# Altium integrated library TI_Logic_Flip-Flop,Latch,Register.IntLib: 2598 symbols (part 83 of 122)
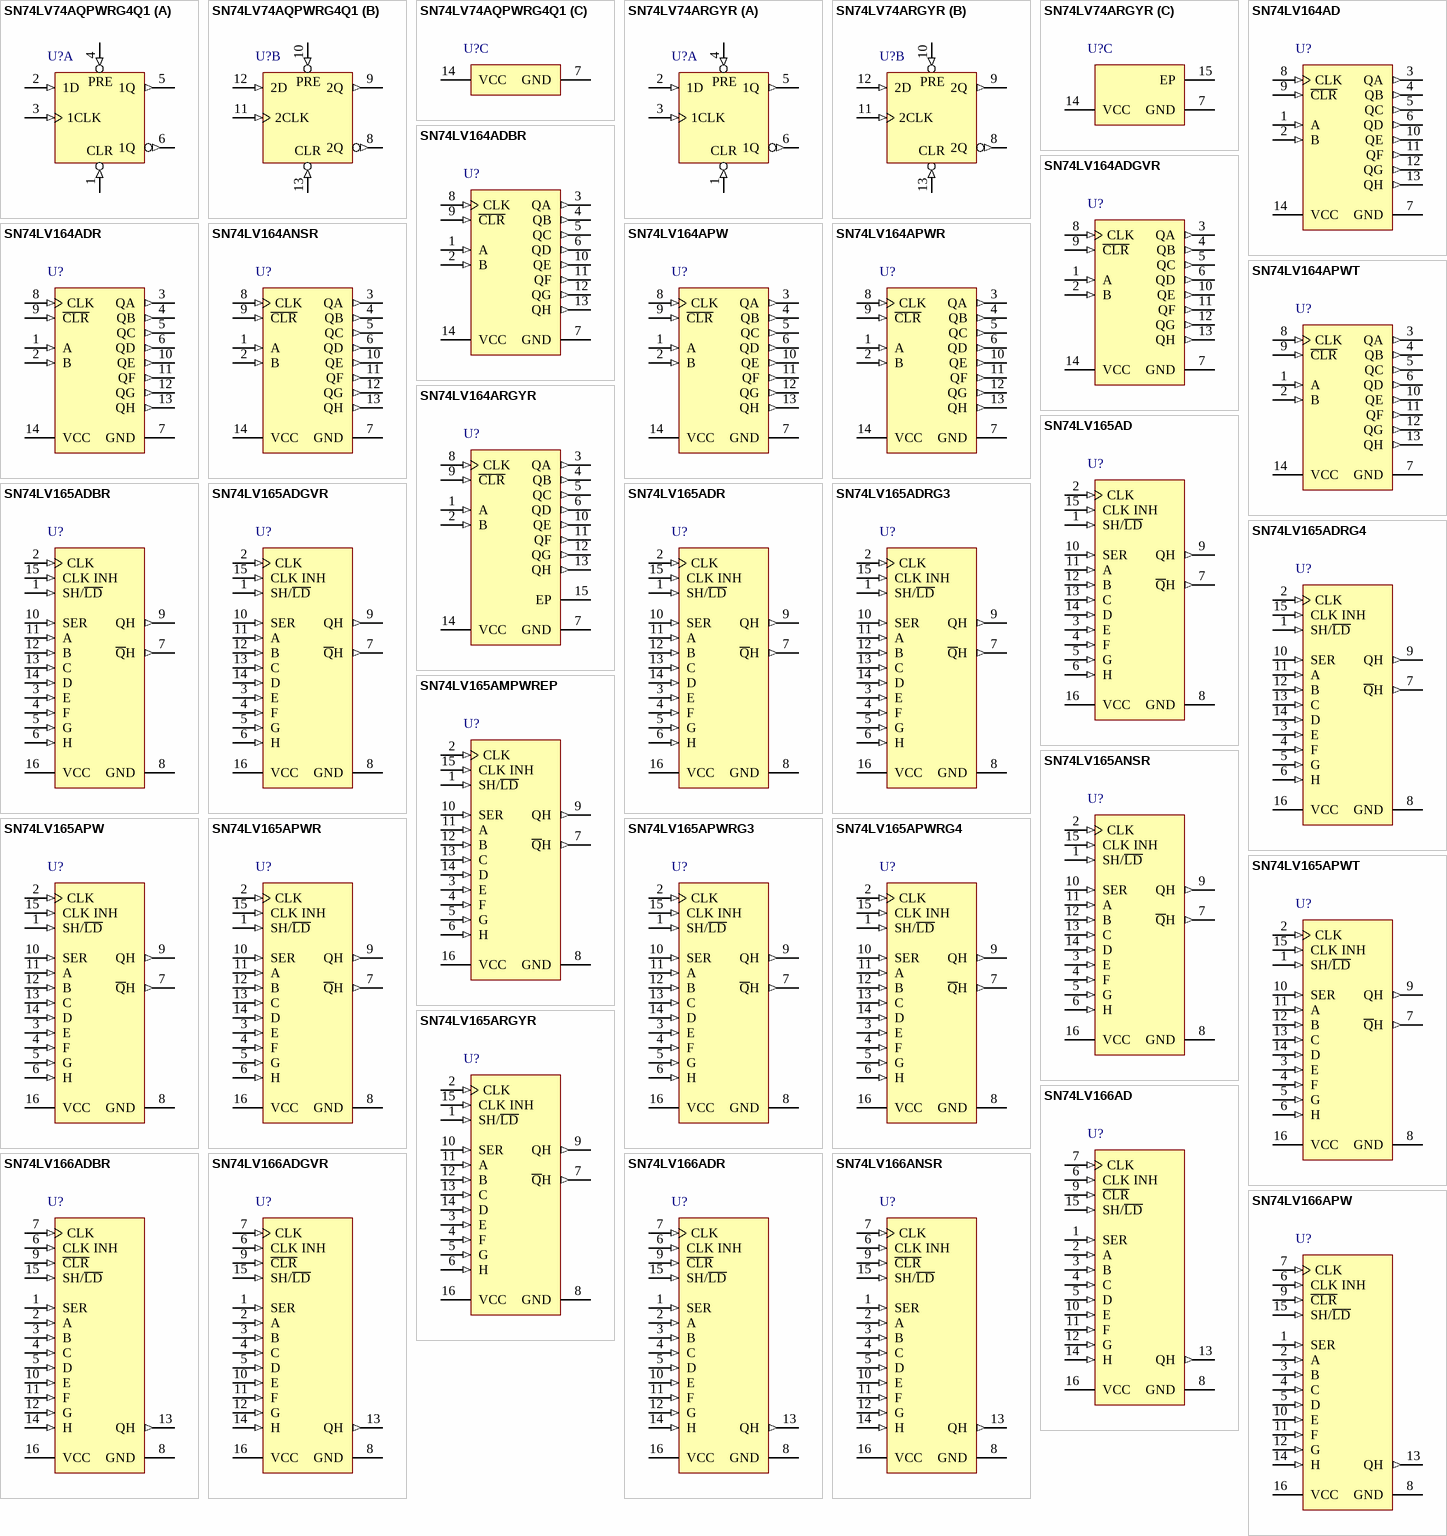
[diagram p221: symbols SN74LV74AQPWRG4Q1 to SN74LV166APW]

## SN74LV164AD
designator U?
8-Bit Parallel-Out Serial Shift Registers, D0014A, TUBE; Generic Part Number: SN74LV164A; Manufacturer: Texas Instruments; PartNumber: SN74LV164AD; Technology Family: LV-A; VCC(Min)(V): 2; VCC(Max)(V): 5.5; Voltage(Nom)(V): 2.5, 3.3, 5; F @ Nom Voltage(Max)(Mhz): 70; ICC @ Nom Voltage(Max)(mA): 0.02; tpd @ Nom Voltage(Max)(ns): 24, 18.5, 12.5; Output Drive (IOL/IOH)(Max)(mA): 50/-50; Input Type: CMOS; 3-State Output: No; Rating: Catalog; DatasheetVersion: SCLS403H; PackageReference: D0014A; Output Type: CMOS; Operating Temperature Range(C): -40 to 85; Code_JEDEC: MS-012; ComponentLink1Description: Manufacturer URL; ComponentLink1URL: http://www.ti.com/; ComponentLink2Description: Datasheet; ComponentLink2URL: http://www.ti.com/lit/ds/symlink/sn74lv164a.pdf; ComponentLink3Description: Package Specification; ComponentLink3URL: http://www.ti.com/lit/ml/mpds177g/mpds177g.pdf
footprint D0014A_N (SOIC, 14-Leads, Body 8.75x4mm, Pitch 1.27mm, IPC Medium Density)
footprint D0014A_M (SOIC, 14-Leads, Body 8.75x4mm, Pitch 1.27mm, IPC Low Density)
footprint D0014A_L (SOIC, 14-Leads, Body 8.75x4mm, Pitch 1.27mm, IPC High Density)
pins: 1 A (in) "Serial input A", 2 B (in) "Serial input B", 3 QA (out) "Output A", 4 QB (out) "Output B", 5 QC (out) "Output C", 6 QD (out) "Output D", 7 GND (power) "Ground pin", 8 CLK (in) "Storage clock", 9 ~{CLR} (in) "Storage clear", 10 QE (out) "Output E", 11 QF (out) "Output F", 12 QG (out) "Output G", 13 QH (out) "Output H", 14 VCC (power) "Power pin"

## SN74LV164ADBR
designator U?
8-Bit Parallel-Out Serial Shift Registers, DB0014A, LARGE T&R; Generic Part Number: SN74LV164A; Manufacturer: Texas Instruments; PartNumber: SN74LV164ADBR; Technology Family: LV-A; VCC(Min)(V): 2; VCC(Max)(V): 5.5; Voltage(Nom)(V): 2.5, 3.3, 5; F @ Nom Voltage(Max)(Mhz): 70; ICC @ Nom Voltage(Max)(mA): 0.02; tpd @ Nom Voltage(Max)(ns): 24, 18.5, 12.5; Output Drive (IOL/IOH)(Max)(mA): 50/-50; Input Type: CMOS; 3-State Output: No; Rating: Catalog; Bits: 8; DatasheetVersion: SCLS403H; PackageReference: DB0014A; Output Type: CMOS; Operating Temperature Range(C): -40 to 85; Code_JEDEC: MO-150; ComponentLink1Description: Manufacturer URL; ComponentLink1URL: http://www.ti.com/; ComponentLink2Description: Datasheet; ComponentLink2URL: http://www.ti.com/lit/ds/symlink/sn74lv164a.pdf; ComponentLink3Description: Package Specification; ComponentLink3URL: http://www.ti.com/lit/ml/msso002e/msso002e.pdf
footprint DB0014A_N (SOP, 14-Leads, Body 5.6x6.5mm, Pitch 0.65mm, IPC Medium Density)
footprint DB0014A_M (SOP, 14-Leads, Body 5.6x6.5mm, Pitch 0.65mm, IPC Low Density)
footprint DB0014A_L (SOP, 14-Leads, Body 5.6x6.5mm, Pitch 0.65mm, IPC High Density)
pins: 1 A (in) "Serial input A", 2 B (in) "Serial input B", 3 QA (out) "Output A", 4 QB (out) "Output B", 5 QC (out) "Output C", 6 QD (out) "Output D", 7 GND (power) "Ground pin", 8 CLK (in) "Storage clock", 9 ~{CLR} (in) "Storage clear", 10 QE (out) "Output E", 11 QF (out) "Output F", 12 QG (out) "Output G", 13 QH (out) "Output H", 14 VCC (power) "Power pin"

## SN74LV164ADGVR
designator U?
8-Bit Parallel-Out Serial Shift Registers, DGV0014A, LARGE T&R; Generic Part Number: SN74LV164A; Manufacturer: Texas Instruments; PartNumber: SN74LV164ADGVR; Technology Family: LV-A; VCC(Min)(V): 2; VCC(Max)(V): 5.5; Voltage(Nom)(V): 2.5, 3.3, 5; F @ Nom Voltage(Max)(Mhz): 70; ICC @ Nom Voltage(Max)(mA): 0.02; tpd @ Nom Voltage(Max)(ns): 24, 18.5, 12.5; Output Drive (IOL/IOH)(Max)(mA): 50/-50; Input Type: CMOS; 3-State Output: No; Rating: Catalog; Bits: 8; DatasheetVersion: SCLS403H; PackageReference: DGV0014A; Output Type: CMOS; Operating Temperature Range(C): -40 to 85; Code_JEDEC: MO-194; ComponentLink1Description: Manufacturer URL; ComponentLink1URL: http://www.ti.com/; ComponentLink2Description: Datasheet; ComponentLink2URL: http://www.ti.com/lit/ds/symlink/sn74lv164a.pdf; ComponentLink3Description: Package Specification; ComponentLink3URL: http://www.ti.com/lit/ml/mpds006c/mpds006c.pdf
footprint DGV0014A_N (SOP, 14-Leads, Body 4.5x3.7mm, Pitch 0.4mm, IPC Medium Density)
footprint DGV0014A_M (SOP, 14-Leads, Body 4.5x3.7mm, Pitch 0.4mm, IPC Low Density)
footprint DGV0014A_L (SOP, 14-Leads, Body 4.5x3.7mm, Pitch 0.4mm, IPC High Density)
pins: 1 A (in) "Serial input A", 2 B (in) "Serial input B", 3 QA (out) "Output A", 4 QB (out) "Output B", 5 QC (out) "Output C", 6 QD (out) "Output D", 7 GND (power) "Ground pin", 8 CLK (in) "Storage clock", 9 ~{CLR} (in) "Storage clear", 10 QE (out) "Output E", 11 QF (out) "Output F", 12 QG (out) "Output G", 13 QH (out) "Output H", 14 VCC (power) "Power pin"

## SN74LV164ADR
designator U?
8-Bit Parallel-Out Serial Shift Registers, D0014A, LARGE T&R; Generic Part Number: SN74LV164A; Manufacturer: Texas Instruments; PartNumber: SN74LV164ADR; Technology Family: LV-A; VCC(Min)(V): 2; VCC(Max)(V): 5.5; Voltage(Nom)(V): 2.5, 3.3, 5; F @ Nom Voltage(Max)(Mhz): 70; ICC @ Nom Voltage(Max)(mA): 0.02; tpd @ Nom Voltage(Max)(ns): 24, 18.5, 12.5; Output Drive (IOL/IOH)(Max)(mA): 50/-50; Input Type: CMOS; 3-State Output: No; Rating: Catalog; DatasheetVersion: SCLS403H; PackageReference: D0014A; Output Type: CMOS; Operating Temperature Range(C): -40 to 85; Code_JEDEC: MS-012; ComponentLink1Description: Manufacturer URL; ComponentLink1URL: http://www.ti.com/; ComponentLink2Description: Datasheet; ComponentLink2URL: http://www.ti.com/lit/ds/symlink/sn74lv164a.pdf; ComponentLink3Description: Package Specification; ComponentLink3URL: http://www.ti.com/lit/ml/mpds177g/mpds177g.pdf
footprint D0014A_N (SOIC, 14-Leads, Body 8.75x4mm, Pitch 1.27mm, IPC Medium Density)
footprint D0014A_M (SOIC, 14-Leads, Body 8.75x4mm, Pitch 1.27mm, IPC Low Density)
footprint D0014A_L (SOIC, 14-Leads, Body 8.75x4mm, Pitch 1.27mm, IPC High Density)
pins: 1 A (in) "Serial input A", 2 B (in) "Serial input B", 3 QA (out) "Output A", 4 QB (out) "Output B", 5 QC (out) "Output C", 6 QD (out) "Output D", 7 GND (power) "Ground pin", 8 CLK (in) "Storage clock", 9 ~{CLR} (in) "Storage clear", 10 QE (out) "Output E", 11 QF (out) "Output F", 12 QG (out) "Output G", 13 QH (out) "Output H", 14 VCC (power) "Power pin"

## SN74LV164ANSR
designator U?
8-Bit Parallel-Out Serial Shift Registers, NS0014A, LARGE T&R; Generic Part Number: SN74LV164A; Manufacturer: Texas Instruments; PartNumber: SN74LV164ANSR; Technology Family: LV-A; VCC(Min)(V): 2; VCC(Max)(V): 5.5; Voltage(Nom)(V): 2.5, 3.3, 5; F @ Nom Voltage(Max)(Mhz): 70; ICC @ Nom Voltage(Max)(mA): 0.02; tpd @ Nom Voltage(Max)(ns): 24, 18.5, 12.5; Output Drive (IOL/IOH)(Max)(mA): 50/-50; Input Type: CMOS; 3-State Output: No; Rating: Catalog; Bits: 8; DatasheetVersion: SCLS403H; PackageReference: NS0014A; Output Type: CMOS; Operating Temperature Range(C): -40 to 85; ComponentLink1Description: Manufacturer URL; ComponentLink1URL: http://www.ti.com/; ComponentLink2Description: Datasheet; ComponentLink2URL: http://www.ti.com/lit/ds/symlink/sn74lv164a.pdf; ComponentLink3Description: Package Specification; ComponentLink3URL: http://www.ti.com/lit/ml/msop002a/msop002a.pdf
footprint NS0014A_N (SOIC,14-Leads,Body 10.5x5.6mm,Pitch 1.27mm,IPC Medium Density)
footprint NS0014A_M (SOIC,14-Leads,Body 10.5x5.6mm,Pitch 1.27mm,IPC Low Density)
footprint NS0014A_L (SOIC,14-Leads,Body 10.5x5.6mm,Pitch 0.4mm,IPC High Density)
pins: 1 A (in) "Serial input A", 2 B (in) "Serial input B", 3 QA (out) "Output A", 4 QB (out) "Output B", 5 QC (out) "Output C", 6 QD (out) "Output D", 7 GND (power) "Ground pin", 8 CLK (in) "Storage clock", 9 ~{CLR} (in) "Storage clear", 10 QE (out) "Output E", 11 QF (out) "Output F", 12 QG (out) "Output G", 13 QH (out) "Output H", 14 VCC (power) "Power pin"

## SN74LV164APW
designator U?
8-Bit Parallel-Out Serial Shift Registers, PW0014A, TUBE; Generic Part Number: SN74LV164A; Manufacturer: Texas Instruments; PartNumber: SN74LV164APW; Technology Family: LV-A; VCC(Min)(V): 2; VCC(Max)(V): 5.5; Voltage(Nom)(V): 2.5, 3.3, 5; F @ Nom Voltage(Max)(Mhz): 70; ICC @ Nom Voltage(Max)(mA): 0.02; tpd @ Nom Voltage(Max)(ns): 24, 18.5, 12.5; Output Drive (IOL/IOH)(Max)(mA): 50/-50; Input Type: CMOS; 3-State Output: No; Rating: Catalog; Bits: 64; DatasheetVersion: SCLS403H; PackageReference: PW0014A; Output Type: CMOS; Operating Temperature Range(C): -40 to 85; Code_JEDEC: MO-153; ComponentLink1Description: Manufacturer URL; ComponentLink1URL: http://www.ti.com/; ComponentLink2Description: Datasheet; ComponentLink2URL: http://www.ti.com/lit/ds/symlink/sn74lv164a.pdf; ComponentLink3Description: Package Specification; ComponentLink3URL: http://www.ti.com/lit/ml/mpds360/mpds360.pdf
footprint PW0014A_N (SOP, 14-Leads, Body 5.1x4.5mm, Pitch 0.65mm, IPC Medium Density)
footprint PW0014A_M (SOP, 14-Leads, Body 5.1x4.5mm, Pitch 0.65mm, IPC Low Density)
footprint PW0014A_L (SOP, 14-Leads, Body 5.1x4.5mm, Pitch 0.65mm, IPC High Density)
pins: 1 A (in) "Serial input A", 2 B (in) "Serial input B", 3 QA (out) "Output A", 4 QB (out) "Output B", 5 QC (out) "Output C", 6 QD (out) "Output D", 7 GND (power) "Ground pin", 8 CLK (in) "Storage clock", 9 ~{CLR} (in) "Storage clear", 10 QE (out) "Output E", 11 QF (out) "Output F", 12 QG (out) "Output G", 13 QH (out) "Output H", 14 VCC (power) "Power pin"

## SN74LV164APWR
designator U?
8-Bit Parallel-Out Serial Shift Registers, PW0014A, LARGE T&R; Generic Part Number: SN74LV164A; Manufacturer: Texas Instruments; PartNumber: SN74LV164APWR; Technology Family: LV-A; VCC(Min)(V): 2; VCC(Max)(V): 5.5; Voltage(Nom)(V): 2.5, 3.3, 5; F @ Nom Voltage(Max)(Mhz): 70; ICC @ Nom Voltage(Max)(mA): 0.02; tpd @ Nom Voltage(Max)(ns): 24, 18.5, 12.5; Output Drive (IOL/IOH)(Max)(mA): 50/-50; Input Type: CMOS; 3-State Output: No; Rating: Catalog; DatasheetVersion: SCLS403H; PackageReference: PW0014A; Output Type: CMOS; Operating Temperature Range(C): -40 to 85; Code_JEDEC: MO-153; ComponentLink1Description: Manufacturer URL; ComponentLink1URL: http://www.ti.com/; ComponentLink2Description: Datasheet; ComponentLink2URL: http://www.ti.com/lit/ds/symlink/sn74lv164a.pdf; ComponentLink3Description: Package Specification; ComponentLink3URL: http://www.ti.com/lit/ml/mpds360/mpds360.pdf
footprint PW0014A_N (SOP, 14-Leads, Body 5.1x4.5mm, Pitch 0.65mm, IPC Medium Density)
footprint PW0014A_M (SOP, 14-Leads, Body 5.1x4.5mm, Pitch 0.65mm, IPC Low Density)
footprint PW0014A_L (SOP, 14-Leads, Body 5.1x4.5mm, Pitch 0.65mm, IPC High Density)
pins: 1 A (in) "Serial input A", 2 B (in) "Serial input B", 3 QA (out) "Output A", 4 QB (out) "Output B", 5 QC (out) "Output C", 6 QD (out) "Output D", 7 GND (power) "Ground pin", 8 CLK (in) "Storage clock", 9 ~{CLR} (in) "Storage clear", 10 QE (out) "Output E", 11 QF (out) "Output F", 12 QG (out) "Output G", 13 QH (out) "Output H", 14 VCC (power) "Power pin"

## SN74LV164APWT
designator U?
8-Bit Parallel-Out Serial Shift Registers, PW0014A, SMALL T&R; Generic Part Number: SN74LV164A; Manufacturer: Texas Instruments; PartNumber: SN74LV164APWT; Technology Family: LV-A; VCC(Min)(V): 2; VCC(Max)(V): 5.5; Voltage(Nom)(V): 2.5, 3.3, 5; F @ Nom Voltage(Max)(Mhz): 70; ICC @ Nom Voltage(Max)(mA): 0.02; tpd @ Nom Voltage(Max)(ns): 24, 18.5, 12.5; Output Drive (IOL/IOH)(Max)(mA): 50/-50; Input Type: CMOS; 3-State Output: No; Rating: Catalog; Bits: 64; DatasheetVersion: SCLS403H; PackageReference: PW0014A; Output Type: CMOS; Operating Temperature Range(C): -40 to 85; Code_JEDEC: MO-153; ComponentLink1Description: Manufacturer URL; ComponentLink1URL: http://www.ti.com/; ComponentLink2Description: Datasheet; ComponentLink2URL: http://www.ti.com/lit/ds/symlink/sn74lv164a.pdf; ComponentLink3Description: Package Specification; ComponentLink3URL: http://www.ti.com/lit/ml/mpds360/mpds360.pdf
footprint PW0014A_N (SOP, 14-Leads, Body 5.1x4.5mm, Pitch 0.65mm, IPC Medium Density)
footprint PW0014A_M (SOP, 14-Leads, Body 5.1x4.5mm, Pitch 0.65mm, IPC Low Density)
footprint PW0014A_L (SOP, 14-Leads, Body 5.1x4.5mm, Pitch 0.65mm, IPC High Density)
pins: 1 A (in) "Serial input A", 2 B (in) "Serial input B", 3 QA (out) "Output A", 4 QB (out) "Output B", 5 QC (out) "Output C", 6 QD (out) "Output D", 7 GND (power) "Ground pin", 8 CLK (in) "Storage clock", 9 ~{CLR} (in) "Storage clear", 10 QE (out) "Output E", 11 QF (out) "Output F", 12 QG (out) "Output G", 13 QH (out) "Output H", 14 VCC (power) "Power pin"

## SN74LV164ARGYR
designator U?
8-Bit Parallel-Out Serial Shift Registers, RGY0014A, LARGE T&R; Generic Part Number: SN74LV164A; Manufacturer: Texas Instruments; PartNumber: SN74LV164ARGYR; Technology Family: LV-A; VCC(Min)(V): 2; VCC(Max)(V): 5.5; Voltage(Nom)(V): 2.5, 3.3, 5; F @ Nom Voltage(Max)(Mhz): 70; ICC @ Nom Voltage(Max)(mA): 0.02; tpd @ Nom Voltage(Max)(ns): 24, 18.5, 12.5; Output Drive (IOL/IOH)(Max)(mA): 50/-50; Input Type: CMOS; 3-State Output: No; Rating: Catalog; DatasheetVersion: SCLS403H; PackageReference: RGY0014A; Output Type: CMOS; Operating Temperature Range(C): -40 to 85; Code_JEDEC: MO-241; ComponentLink1Description: Manufacturer URL; ComponentLink1URL: http://www.ti.com/; ComponentLink2Description: Datasheet; ComponentLink2URL: http://www.ti.com/lit/ds/symlink/sn74lv164a.pdf; ComponentLink3Description: Package Specification; ComponentLink3URL: http://www.ti.com/lit/ml/mpqf114g/mpqf114g.pdf
footprint RGY0014A_V (QFN, 14-Leads, Body 3.5x3.5mm, Thermal Pad 2.05x2.05mm, TI Recommend)
pins: 1 A (in) "Serial input A", 2 B (in) "Serial input B", 3 QA (out) "Output A", 4 QB (out) "Output B", 5 QC (out) "Output C", 6 QD (out) "Output D", 7 GND (power) "Ground pin", 8 CLK (in) "Storage clock", 9 ~{CLR} (in) "Storage clear", 10 QE (out) "Output E", 11 QF (out) "Output F", 12 QG (out) "Output G", 13 QH (out) "Output H", 14 VCC (power) "Power pin", 15 EP

## SN74LV165AD
designator U?
Parallel-Load 8-Bit Shift Registers, D0016A, TUBE; Generic Part Number: SN74LV165A; Manufacturer: Texas Instruments; PartNumber: SN74LV165AD; Technology Family: LV-A; VCC(Min)(V): 2; VCC(Max)(V): 5.5; Voltage(Nom)(V): 2.5, 3.3, 5; F @ Nom Voltage(Max)(Mhz): 70; ICC @ Nom Voltage(Max)(mA): 0.02; tpd @ Nom Voltage(Max)(ns): 28, 16.9, 13.5; Output Drive (IOL/IOH)(Max)(mA): 50/-50; Input Type: CMOS; 3-State Output: No; Rating: Catalog; Bits: 8; DatasheetVersion: SCLS402N; PackageReference: D0016A; No. of Outputs: 2; Output Type: CMOS; Operating Temperature Range(C): -40 to 125; Code_JEDEC: MS-012 variation AC; ComponentLink1Description: Manufacturer URL; ComponentLink1URL: http://www.ti.com/; ComponentLink2Description: Datasheet; ComponentLink2URL: http://www.ti.com/lit/ds/symlink/sn74lv165a.pdf; ComponentLink3Description: Package Specification; ComponentLink3URL: http://www.ti.com/lit/ml/mpds178g/mpds178g.pdf
footprint D0016A_N (SOIC, 16-Leads, Body 10x4mm, Pitch 1.27mm, IPC Medium Density)
footprint D0016A_M (SOIC, 16-Leads, Body 10x4mm, Pitch 1.27mm, IPC Low Density)
footprint D0016A_L (SOIC, 16-Leads, Body 10x4mm, Pitch 1.27mm, IPC High Density)
pins: 1 SH/~{LD} (in), 2 CLK (in), 3 E (in), 4 F (in), 5 G (in), 6 H (in), 7 ~{Q}H (out), 8 GND (power), 9 QH (out), 10 SER (in), 11 A (in), 12 B (in), 13 C (in), 14 D (in), 15 CLK INH (in), 16 VCC (power)

## SN74LV165ADBR
designator U?
Parallel-Load 8-Bit Shift Registers, DB0016A, LARGE T&R; Generic Part Number: SN74LV165A; Manufacturer: Texas Instruments; PartNumber: SN74LV165ADBR; Technology Family: LV-A; VCC(Min)(V): 2; VCC(Max)(V): 5.5; Voltage(Nom)(V): 2.5, 3.3, 5; F @ Nom Voltage(Max)(Mhz): 70; ICC @ Nom Voltage(Max)(mA): 0.02; tpd @ Nom Voltage(Max)(ns): 28, 16.9, 13.5; Output Drive (IOL/IOH)(Max)(mA): 50/-50; Input Type: CMOS; 3-State Output: No; Rating: Catalog; Bits: 8; DatasheetVersion: SCLS402N; PackageReference: DB0016A; No. of Outputs: 2; Output Type: CMOS; Operating Temperature Range(C): -40 to 125; Code_JEDEC: MO-150; ComponentLink1Description: Manufacturer URL; ComponentLink1URL: http://www.ti.com/; ComponentLink2Description: Datasheet; ComponentLink2URL: http://www.ti.com/lit/ds/symlink/sn74lv165a.pdf; ComponentLink3Description: Package Specification; ComponentLink3URL: http://www.ti.com/lit/ml/mpds507/mpds507.pdf
footprint DB0016A_N (SOP, 16-Leads, Body 5.6x6.5mm, Pitch 0.65mm, IPC Medium Density)
footprint DB0016A_M (SOP, 16-Leads, Body 5.6x6.5mm, Pitch 0.65mm, IPC Low Density)
footprint DB0016A_L (SOP, 16-Leads, Body 5.6x6.5mm, Pitch 0.65mm, IPC High Density)
pins: 1 SH/~{LD} (in), 2 CLK (in), 3 E (in), 4 F (in), 5 G (in), 6 H (in), 7 ~{Q}H (out), 8 GND (power), 9 QH (out), 10 SER (in), 11 A (in), 12 B (in), 13 C (in), 14 D (in), 15 CLK INH (in), 16 VCC (power)

## SN74LV165ADGVR
designator U?
Parallel-Load 8-Bit Shift Registers, DGV0016A, LARGE T&R; Generic Part Number: SN74LV165A; Manufacturer: Texas Instruments; PartNumber: SN74LV165ADGVR; Technology Family: LV-A; VCC(Min)(V): 2; VCC(Max)(V): 5.5; Voltage(Nom)(V): 2.5, 3.3, 5; F @ Nom Voltage(Max)(Mhz): 70; ICC @ Nom Voltage(Max)(mA): 0.02; tpd @ Nom Voltage(Max)(ns): 28, 16.9, 13.5; Output Drive (IOL/IOH)(Max)(mA): 50/-50; Input Type: CMOS; 3-State Output: No; Rating: Catalog; DatasheetVersion: SCLS402N; PackageReference: DGV0016A; No. of Outputs: 2; Output Type: CMOS; Operating Temperature Range(C): -40 to 125; Code_JEDEC: MO-194; ComponentLink1Description: Manufacturer URL; ComponentLink1URL: http://www.ti.com/; ComponentLink2Description: Datasheet; ComponentLink2URL: http://www.ti.com/lit/ds/symlink/sn74lv165a.pdf; ComponentLink3Description: Package Specification; ComponentLink3URL: http://www.ti.com/lit/ml/mpds006c/mpds006c.pdf
footprint DGV0016A_N (SOP, 16-Leads, Body 4.5x3.7mm, Pitch 0.4mm, IPC Medium Density)
footprint DGV0016A_M (SOP, 16-Leads, Body 4.5x3.7mm, Pitch 0.4mm, IPC Low Density)
footprint DGV0016A_L (SOP, 16-Leads, Body 4.5x3.7mm, Pitch 0.4mm, IPC High Density)
pins: 1 SH/~{LD} (in), 2 CLK (in), 3 E (in), 4 F (in), 5 G (in), 6 H (in), 7 ~{Q}H (out), 8 GND (power), 9 QH (out), 10 SER (in), 11 A (in), 12 B (in), 13 C (in), 14 D (in), 15 CLK INH (in), 16 VCC (power)

## SN74LV165ADR
designator U?
Parallel-Load 8-Bit Shift Registers, D0016A, LARGE T&R; Generic Part Number: SN74LV165A; Manufacturer: Texas Instruments; PartNumber: SN74LV165ADR; Technology Family: LV-A; VCC(Min)(V): 2; VCC(Max)(V): 5.5; Voltage(Nom)(V): 2.5, 3.3, 5; F @ Nom Voltage(Max)(Mhz): 70; ICC @ Nom Voltage(Max)(mA): 0.02; tpd @ Nom Voltage(Max)(ns): 28, 16.9, 13.5; Output Drive (IOL/IOH)(Max)(mA): 50/-50; Input Type: CMOS; 3-State Output: No; Rating: Catalog; Bits: 8; DatasheetVersion: SCLS402N; PackageReference: D0016A; No. of Outputs: 2; Output Type: CMOS; Operating Temperature Range(C): -40 to 125; Code_JEDEC: MS-012 variation AC; ComponentLink1Description: Manufacturer URL; ComponentLink1URL: http://www.ti.com/; ComponentLink2Description: Datasheet; ComponentLink2URL: http://www.ti.com/lit/ds/symlink/sn74lv165a.pdf; ComponentLink3Description: Package Specification; ComponentLink3URL: http://www.ti.com/lit/ml/mpds178g/mpds178g.pdf
footprint D0016A_N (SOIC, 16-Leads, Body 10x4mm, Pitch 1.27mm, IPC Medium Density)
footprint D0016A_M (SOIC, 16-Leads, Body 10x4mm, Pitch 1.27mm, IPC Low Density)
footprint D0016A_L (SOIC, 16-Leads, Body 10x4mm, Pitch 1.27mm, IPC High Density)
pins: 1 SH/~{LD} (in), 2 CLK (in), 3 E (in), 4 F (in), 5 G (in), 6 H (in), 7 ~{Q}H (out), 8 GND (power), 9 QH (out), 10 SER (in), 11 A (in), 12 B (in), 13 C (in), 14 D (in), 15 CLK INH (in), 16 VCC (power)

## SN74LV165ADRG3
designator U?
Parallel-Load 8-Bit Shift Registers, D0016A, LARGE T&R; Generic Part Number: SN74LV165A; Manufacturer: Texas Instruments; PartNumber: SN74LV165ADRG3; Technology Family: LV-A; VCC(Min)(V): 2; VCC(Max)(V): 5.5; Voltage(Nom)(V): 2.5, 3.3, 5; F @ Nom Voltage(Max)(Mhz): 70; ICC @ Nom Voltage(Max)(mA): 0.02; tpd @ Nom Voltage(Max)(ns): 28, 16.9, 13.5; Output Drive (IOL/IOH)(Max)(mA): 50/-50; Input Type: CMOS; 3-State Output: No; Rating: Catalog; Bits: 8; DatasheetVersion: SCLS402N; PackageReference: D0016A; No. of Outputs: 2; Output Type: CMOS; Operating Temperature Range(C): -40 to 125; Code_JEDEC: MS-012 variation AC; ComponentLink1Description: Manufacturer URL; ComponentLink1URL: http://www.ti.com/; ComponentLink2Description: Datasheet; ComponentLink2URL: http://www.ti.com/lit/ds/symlink/sn74lv165a.pdf; ComponentLink3Description: Package Specification; ComponentLink3URL: http://www.ti.com/lit/ml/mpds178g/mpds178g.pdf
footprint D0016A_N (SOIC, 16-Leads, Body 10x4mm, Pitch 1.27mm, IPC Medium Density)
footprint D0016A_M (SOIC, 16-Leads, Body 10x4mm, Pitch 1.27mm, IPC Low Density)
footprint D0016A_L (SOIC, 16-Leads, Body 10x4mm, Pitch 1.27mm, IPC High Density)
pins: 1 SH/~{LD} (in), 2 CLK (in), 3 E (in), 4 F (in), 5 G (in), 6 H (in), 7 ~{Q}H (out), 8 GND (power), 9 QH (out), 10 SER (in), 11 A (in), 12 B (in), 13 C (in), 14 D (in), 15 CLK INH (in), 16 VCC (power)

## SN74LV165ADRG4
designator U?
Parallel-Load 8-Bit Shift Registers, D0016A, LARGE T&R; Generic Part Number: SN74LV165A; Manufacturer: Texas Instruments; PartNumber: SN74LV165ADRG4; Technology Family: LV-A; VCC(Min)(V): 2; VCC(Max)(V): 5.5; Voltage(Nom)(V): 2.5, 3.3, 5; F @ Nom Voltage(Max)(Mhz): 70; ICC @ Nom Voltage(Max)(mA): 0.02; tpd @ Nom Voltage(Max)(ns): 28, 16.9, 13.5; Output Drive (IOL/IOH)(Max)(mA): 50/-50; Input Type: CMOS; 3-State Output: No; Rating: Catalog; Bits: 8; DatasheetVersion: SCLS402N; PackageReference: D0016A; No. of Outputs: 2; Output Type: CMOS; Operating Temperature Range(C): -40 to 125; Code_JEDEC: MS-012 variation AC; ComponentLink1Description: Manufacturer URL; ComponentLink1URL: http://www.ti.com/; ComponentLink2Description: Datasheet; ComponentLink2URL: http://www.ti.com/lit/ds/symlink/sn74lv165a.pdf; ComponentLink3Description: Package Specification; ComponentLink3URL: http://www.ti.com/lit/ml/mpds178g/mpds178g.pdf
footprint D0016A_N (SOIC, 16-Leads, Body 10x4mm, Pitch 1.27mm, IPC Medium Density)
footprint D0016A_M (SOIC, 16-Leads, Body 10x4mm, Pitch 1.27mm, IPC Low Density)
footprint D0016A_L (SOIC, 16-Leads, Body 10x4mm, Pitch 1.27mm, IPC High Density)
pins: 1 SH/~{LD} (in), 2 CLK (in), 3 E (in), 4 F (in), 5 G (in), 6 H (in), 7 ~{Q}H (out), 8 GND (power), 9 QH (out), 10 SER (in), 11 A (in), 12 B (in), 13 C (in), 14 D (in), 15 CLK INH (in), 16 VCC (power)

## SN74LV165AMPWREP
designator U?
Enhanced Product Parallel-Load 8-Bit Shift Registers, PW0016A, LARGE T&R; Generic Part Number: SN74LV165A-EP; Manufacturer: Texas Instruments; PartNumber: SN74LV165AMPWREP; Technology Family: LV-A; VCC(Min)(V): 2; VCC(Max)(V): 5.5; Voltage(Nom)(V): 2.5, 3.3, 5; F @ Nom Voltage(Max)(Mhz): 70; ICC @ Nom Voltage(Max)(mA): 0.02; tpd @ Nom Voltage(Max)(ns): 26, 16.9, 13.5; Output Drive (IOL/IOH)(Max)(mA): 50/-50; Rating: HiRel Enhanced Product; Bits: 8; DatasheetVersion: SCLS694; PackageReference: PW0016A; Operating Temperature Range(C): -55 to 125; Code_JEDEC: MO-153; ComponentLink1Description: Manufacturer URL; ComponentLink1URL: http://www.ti.com/; ComponentLink2Description: Datasheet; ComponentLink2URL: http://www.ti.com/lit/ds/symlink/sn74lv165a-ep.pdf; ComponentLink3Description: Package Specification; ComponentLink3URL: http://www.ti.com/lit/ml/mpds361/mpds361.pdf
footprint PW0016A_N (SOP, 16-Leads, Body 5.1x4.5mm, Pitch 0.65mm, IPC Medium Density)
footprint PW0016A_M (SOP, 16-Leads, Body 5.1x4.5mm, Pitch 0.65mm, IPC Low Density)
footprint PW0016A_L (SOP, 16-Leads, Body 5.1x4.5mm, Pitch 0.65mm, IPC High Density)
pins: 1 SH/~{LD} (in), 2 CLK (in), 3 E (in), 4 F (in), 5 G (in), 6 H (in), 7 ~{Q}H (out), 8 GND (power), 9 QH (out), 10 SER (in), 11 A (in), 12 B (in), 13 C (in), 14 D (in), 15 CLK INH (in), 16 VCC (power)

## SN74LV165ANSR
designator U?
Parallel-Load 8-Bit Shift Registers, NS0016A, LARGE T&R; Generic Part Number: SN74LV165A; Manufacturer: Texas Instruments; PartNumber: SN74LV165ANSR; Technology Family: LV-A; VCC(Min)(V): 2; VCC(Max)(V): 5.5; Voltage(Nom)(V): 2.5, 3.3, 5; F @ Nom Voltage(Max)(Mhz): 70; ICC @ Nom Voltage(Max)(mA): 0.02; tpd @ Nom Voltage(Max)(ns): 28, 16.9, 13.5; Output Drive (IOL/IOH)(Max)(mA): 50/-50; Input Type: CMOS; 3-State Output: No; Rating: Catalog; Bits: 8; DatasheetVersion: SCLS402N; PackageReference: NS0016A; No. of Outputs: 2; Output Type: CMOS; Operating Temperature Range(C): -40 to 125; ComponentLink1Description: Manufacturer URL; ComponentLink1URL: http://www.ti.com/; ComponentLink2Description: Datasheet; ComponentLink2URL: http://www.ti.com/lit/ds/symlink/sn74lv165a.pdf; ComponentLink3Description: Package Specification; ComponentLink3URL: http://www.ti.com/lit/ml/msop002a/msop002a.pdf
footprint NS0016A_N (SOIC,16-Leads,Body 10.5x5.6mm,Pitch 1.27mm,IPC Medium Density)
footprint NS0016A_M (SOIC,16-Leads,Body 10.5x5.6mm,Pitch 1.27mm,IPC Low Density)
footprint NS0016A_L (SOIC,16-Leads,Body 10.5x5.6mm,Pitch 1.27mm,IPC High Density)
pins: 1 SH/~{LD} (in), 2 CLK (in), 3 E (in), 4 F (in), 5 G (in), 6 H (in), 7 ~{Q}H (out), 8 GND (power), 9 QH (out), 10 SER (in), 11 A (in), 12 B (in), 13 C (in), 14 D (in), 15 CLK INH (in), 16 VCC (power)

## SN74LV165APW
designator U?
Parallel-Load 8-Bit Shift Registers, PW0016A, TUBE; Generic Part Number: SN74LV165A; Manufacturer: Texas Instruments; PartNumber: SN74LV165APW; Technology Family: LV-A; VCC(Min)(V): 2; VCC(Max)(V): 5.5; Voltage(Nom)(V): 2.5, 3.3, 5; F @ Nom Voltage(Max)(Mhz): 70; ICC @ Nom Voltage(Max)(mA): 0.02; tpd @ Nom Voltage(Max)(ns): 28, 16.9, 13.5; Output Drive (IOL/IOH)(Max)(mA): 50/-50; Input Type: CMOS; 3-State Output: No; Rating: Catalog; Bits: 8; DatasheetVersion: SCLS402N; PackageReference: PW0016A; No. of Outputs: 2; Output Type: CMOS; Operating Temperature Range(C): -40 to 125; Code_JEDEC: MO-153; ComponentLink1Description: Manufacturer URL; ComponentLink1URL: http://www.ti.com/; ComponentLink2Description: Datasheet; ComponentLink2URL: http://www.ti.com/lit/ds/symlink/sn74lv165a.pdf; ComponentLink3Description: Package Specification; ComponentLink3URL: http://www.ti.com/lit/ml/mpds361/mpds361.pdf
footprint PW0016A_N (SOP, 16-Leads, Body 5.1x4.5mm, Pitch 0.65mm, IPC Medium Density)
footprint PW0016A_M (SOP, 16-Leads, Body 5.1x4.5mm, Pitch 0.65mm, IPC Low Density)
footprint PW0016A_L (SOP, 16-Leads, Body 5.1x4.5mm, Pitch 0.65mm, IPC High Density)
pins: 1 SH/~{LD} (in), 2 CLK (in), 3 E (in), 4 F (in), 5 G (in), 6 H (in), 7 ~{Q}H (out), 8 GND (power), 9 QH (out), 10 SER (in), 11 A (in), 12 B (in), 13 C (in), 14 D (in), 15 CLK INH (in), 16 VCC (power)

## SN74LV165APWR
designator U?
Parallel-Load 8-Bit Shift Registers, PW0016A, LARGE T&R; Generic Part Number: SN74LV165A; Manufacturer: Texas Instruments; PartNumber: SN74LV165APWR; Technology Family: LV-A; VCC(Min)(V): 2; VCC(Max)(V): 5.5; Voltage(Nom)(V): 2.5, 3.3, 5; F @ Nom Voltage(Max)(Mhz): 70; ICC @ Nom Voltage(Max)(mA): 0.02; tpd @ Nom Voltage(Max)(ns): 28, 16.9, 13.5; Output Drive (IOL/IOH)(Max)(mA): 50/-50; Input Type: CMOS; 3-State Output: No; Rating: Catalog; Bits: 8; DatasheetVersion: SCLS402N; PackageReference: PW0016A; No. of Outputs: 2; Output Type: CMOS; Operating Temperature Range(C): -40 to 125; Code_JEDEC: MO-153; ComponentLink1Description: Manufacturer URL; ComponentLink1URL: http://www.ti.com/; ComponentLink2Description: Datasheet; ComponentLink2URL: http://www.ti.com/lit/ds/symlink/sn74lv165a.pdf; ComponentLink3Description: Package Specification; ComponentLink3URL: http://www.ti.com/lit/ml/mpds361/mpds361.pdf
footprint PW0016A_N (SOP, 16-Leads, Body 5.1x4.5mm, Pitch 0.65mm, IPC Medium Density)
footprint PW0016A_M (SOP, 16-Leads, Body 5.1x4.5mm, Pitch 0.65mm, IPC Low Density)
footprint PW0016A_L (SOP, 16-Leads, Body 5.1x4.5mm, Pitch 0.65mm, IPC High Density)
pins: 1 SH/~{LD} (in), 2 CLK (in), 3 E (in), 4 F (in), 5 G (in), 6 H (in), 7 ~{Q}H (out), 8 GND (power), 9 QH (out), 10 SER (in), 11 A (in), 12 B (in), 13 C (in), 14 D (in), 15 CLK INH (in), 16 VCC (power)

## SN74LV165APWRG3
designator U?
Parallel-Load 8-Bit Shift Registers, PW0016A, LARGE T&R; Generic Part Number: SN74LV165A; Manufacturer: Texas Instruments; PartNumber: SN74LV165APWRG3; Technology Family: LV-A; VCC(Min)(V): 2; VCC(Max)(V): 5.5; Voltage(Nom)(V): 2.5, 3.3, 5; F @ Nom Voltage(Max)(Mhz): 70; ICC @ Nom Voltage(Max)(mA): 0.02; tpd @ Nom Voltage(Max)(ns): 28, 16.9, 13.5; Output Drive (IOL/IOH)(Max)(mA): 50/-50; Input Type: CMOS; 3-State Output: No; Rating: Catalog; Bits: 8; DatasheetVersion: SCLS402N; PackageReference: PW0016A; No. of Outputs: 2; Output Type: CMOS; Operating Temperature Range(C): -40 to 125; Code_JEDEC: MO-153; ComponentLink1Description: Manufacturer URL; ComponentLink1URL: http://www.ti.com/; ComponentLink2Description: Datasheet; ComponentLink2URL: http://www.ti.com/lit/ds/symlink/sn74lv165a.pdf; ComponentLink3Description: Package Specification; ComponentLink3URL: http://www.ti.com/lit/ml/mpds361/mpds361.pdf
footprint PW0016A_N (SOP, 16-Leads, Body 5.1x4.5mm, Pitch 0.65mm, IPC Medium Density)
footprint PW0016A_M (SOP, 16-Leads, Body 5.1x4.5mm, Pitch 0.65mm, IPC Low Density)
footprint PW0016A_L (SOP, 16-Leads, Body 5.1x4.5mm, Pitch 0.65mm, IPC High Density)
pins: 1 SH/~{LD} (in), 2 CLK (in), 3 E (in), 4 F (in), 5 G (in), 6 H (in), 7 ~{Q}H (out), 8 GND (power), 9 QH (out), 10 SER (in), 11 A (in), 12 B (in), 13 C (in), 14 D (in), 15 CLK INH (in), 16 VCC (power)

## SN74LV165APWRG4
designator U?
Parallel-Load 8-Bit Shift Registers, PW0016A, LARGE T&R; Generic Part Number: SN74LV165A; Manufacturer: Texas Instruments; PartNumber: SN74LV165APWRG4; Technology Family: LV-A; VCC(Min)(V): 2; VCC(Max)(V): 5.5; Voltage(Nom)(V): 2.5, 3.3, 5; F @ Nom Voltage(Max)(Mhz): 70; ICC @ Nom Voltage(Max)(mA): 0.02; tpd @ Nom Voltage(Max)(ns): 28, 16.9, 13.5; Output Drive (IOL/IOH)(Max)(mA): 50/-50; Input Type: CMOS; 3-State Output: No; Rating: Catalog; Bits: 8; DatasheetVersion: SCLS402N; PackageReference: PW0016A; No. of Outputs: 2; Output Type: CMOS; Operating Temperature Range(C): -40 to 125; Code_JEDEC: MO-153; ComponentLink1Description: Manufacturer URL; ComponentLink1URL: http://www.ti.com/; ComponentLink2Description: Datasheet; ComponentLink2URL: http://www.ti.com/lit/ds/symlink/sn74lv165a.pdf; ComponentLink3Description: Package Specification; ComponentLink3URL: http://www.ti.com/lit/ml/mpds361/mpds361.pdf
footprint PW0016A_N (SOP, 16-Leads, Body 5.1x4.5mm, Pitch 0.65mm, IPC Medium Density)
footprint PW0016A_M (SOP, 16-Leads, Body 5.1x4.5mm, Pitch 0.65mm, IPC Low Density)
footprint PW0016A_L (SOP, 16-Leads, Body 5.1x4.5mm, Pitch 0.65mm, IPC High Density)
pins: 1 SH/~{LD} (in), 2 CLK (in), 3 E (in), 4 F (in), 5 G (in), 6 H (in), 7 ~{Q}H (out), 8 GND (power), 9 QH (out), 10 SER (in), 11 A (in), 12 B (in), 13 C (in), 14 D (in), 15 CLK INH (in), 16 VCC (power)

## SN74LV165APWT
designator U?
Parallel-Load 8-Bit Shift Registers, PW0016A, SMALL T&R; Generic Part Number: SN74LV165A; Manufacturer: Texas Instruments; PartNumber: SN74LV165APWT; Technology Family: LV-A; VCC(Min)(V): 2; VCC(Max)(V): 5.5; Voltage(Nom)(V): 2.5, 3.3, 5; F @ Nom Voltage(Max)(Mhz): 70; ICC @ Nom Voltage(Max)(mA): 0.02; tpd @ Nom Voltage(Max)(ns): 28, 16.9, 13.5; Output Drive (IOL/IOH)(Max)(mA): 50/-50; Input Type: CMOS; 3-State Output: No; Rating: Catalog; Bits: 8; DatasheetVersion: SCLS402N; PackageReference: PW0016A; No. of Outputs: 2; Output Type: CMOS; Operating Temperature Range(C): -40 to 125; Code_JEDEC: MO-153; ComponentLink1Description: Manufacturer URL; ComponentLink1URL: http://www.ti.com/; ComponentLink2Description: Datasheet; ComponentLink2URL: http://www.ti.com/lit/ds/symlink/sn74lv165a.pdf; ComponentLink3Description: Package Specification; ComponentLink3URL: http://www.ti.com/lit/ml/mpds361/mpds361.pdf
footprint PW0016A_N (SOP, 16-Leads, Body 5.1x4.5mm, Pitch 0.65mm, IPC Medium Density)
footprint PW0016A_M (SOP, 16-Leads, Body 5.1x4.5mm, Pitch 0.65mm, IPC Low Density)
footprint PW0016A_L (SOP, 16-Leads, Body 5.1x4.5mm, Pitch 0.65mm, IPC High Density)
pins: 1 SH/~{LD} (in), 2 CLK (in), 3 E (in), 4 F (in), 5 G (in), 6 H (in), 7 ~{Q}H (out), 8 GND (power), 9 QH (out), 10 SER (in), 11 A (in), 12 B (in), 13 C (in), 14 D (in), 15 CLK INH (in), 16 VCC (power)

## SN74LV165ARGYR
designator U?
Parallel-Load 8-Bit Shift Registers, RGY0016A, LARGE T&R; Generic Part Number: SN74LV165A; Manufacturer: Texas Instruments; PartNumber: SN74LV165ARGYR; Technology Family: LV-A; VCC(Min)(V): 2; VCC(Max)(V): 5.5; Voltage(Nom)(V): 2.5, 3.3, 5; F @ Nom Voltage(Max)(Mhz): 70; ICC @ Nom Voltage(Max)(mA): 0.02; tpd @ Nom Voltage(Max)(ns): 28, 16.9, 13.5; Output Drive (IOL/IOH)(Max)(mA): 50/-50; Input Type: CMOS; 3-State Output: No; Rating: Catalog; DatasheetVersion: SCLS402N; PackageReference: RGY0016A; No. of Outputs: 2; Output Type: CMOS; Operating Temperature Range(C): -40 to 125; Code_JEDEC: MO-241; ComponentLink1Description: Manufacturer URL; ComponentLink1URL: http://www.ti.com/; ComponentLink2Description: Datasheet; ComponentLink2URL: http://www.ti.com/lit/ds/symlink/sn74lv165a.pdf; ComponentLink3Description: Package Specification; ComponentLink3URL: http://www.ti.com/lit/ml/mpqf115g/mpqf115g.pdf
footprint RGY0016A_V (QFN, 16-Leads, Body 4x3.5mm, Thermal Pad 2.55x2.05mm, TI Recommend)
pins: 1 SH/~{LD} (in), 2 CLK (in), 3 E (in), 4 F (in), 5 G (in), 6 H (in), 7 ~{Q}H (out), 8 GND (power), 9 QH (out), 10 SER (in), 11 A (in), 12 B (in), 13 C (in), 14 D (in), 15 CLK INH (in), 16 VCC (power)

## SN74LV166AD
designator U?
8-Bit Parallel-Load Shift Registers, D0016A, TUBE; Generic Part Number: SN74LV166A; Manufacturer: Texas Instruments; PartNumber: SN74LV166AD; Technology Family: LV-A; VCC(Min)(V): 2; VCC(Max)(V): 5.5; No. of Outputs: 1; Voltage(Nom)(V): 2.5, 3.3, 5; F @ Nom Voltage(Max)(Mhz): 70; ICC @ Nom Voltage(Max)(mA): 0.02; tpd @ Nom Voltage(Max)(ns): 26, 21.5, 13.5; Output Drive (IOL/IOH)(Max)(mA): 50/-50; Input Type: CMOS; 3-State Output: No; Rating: Catalog; Bits: 8; DatasheetVersion: SCLS456C; PackageReference: D0016A; Output Type: CMOS; Operating Temperature Range(C): -40 to 85; Code_JEDEC: MS-012 variation AC; ComponentLink1Description: Manufacturer URL; ComponentLink1URL: http://www.ti.com/; ComponentLink2Description: Datasheet; ComponentLink2URL: http://www.ti.com/lit/ds/symlink/sn74lv166a.pdf; ComponentLink3Description: Package Specification; ComponentLink3URL: http://www.ti.com/lit/ml/mpds178g/mpds178g.pdf
footprint D0016A_N (SOIC, 16-Leads, Body 10x4mm, Pitch 1.27mm, IPC Medium Density)
footprint D0016A_M (SOIC, 16-Leads, Body 10x4mm, Pitch 1.27mm, IPC Low Density)
footprint D0016A_L (SOIC, 16-Leads, Body 10x4mm, Pitch 1.27mm, IPC High Density)
pins: 1 SER (in), 2 A (in), 3 B (in), 4 C (in), 5 D (in), 6 CLK INH (in), 7 CLK (in), 8 GND (power), 9 ~{CLR} (in), 10 E (in), 11 F (in), 12 G (in), 13 QH (out), 14 H (in), 15 SH/~{LD} (in), 16 VCC (power)

## SN74LV166ADBR
designator U?
8-Bit Parallel-Load Shift Registers, DB0016A, LARGE T&R; Generic Part Number: SN74LV166A; Manufacturer: Texas Instruments; PartNumber: SN74LV166ADBR; Technology Family: LV-A; VCC(Min)(V): 2; VCC(Max)(V): 5.5; No. of Outputs: 1; Voltage(Nom)(V): 2.5, 3.3, 5; F @ Nom Voltage(Max)(Mhz): 70; ICC @ Nom Voltage(Max)(mA): 0.02; tpd @ Nom Voltage(Max)(ns): 26, 21.5, 13.5; Output Drive (IOL/IOH)(Max)(mA): 50/-50; Input Type: CMOS; 3-State Output: No; Rating: Catalog; Bits: 8; DatasheetVersion: SCLS456C; PackageReference: DB0016A; Output Type: CMOS; Operating Temperature Range(C): -40 to 85; Code_JEDEC: MO-150; ComponentLink1Description: Manufacturer URL; ComponentLink1URL: http://www.ti.com/; ComponentLink2Description: Datasheet; ComponentLink2URL: http://www.ti.com/lit/ds/symlink/sn74lv166a.pdf; ComponentLink3Description: Package Specification; ComponentLink3URL: http://www.ti.com/lit/ml/mpds507/mpds507.pdf
footprint DB0016A_N (SOP, 16-Leads, Body 5.6x6.5mm, Pitch 0.65mm, IPC Medium Density)
footprint DB0016A_M (SOP, 16-Leads, Body 5.6x6.5mm, Pitch 0.65mm, IPC Low Density)
footprint DB0016A_L (SOP, 16-Leads, Body 5.6x6.5mm, Pitch 0.65mm, IPC High Density)
pins: 1 SER (in), 2 A (in), 3 B (in), 4 C (in), 5 D (in), 6 CLK INH (in), 7 CLK (in), 8 GND (power), 9 ~{CLR} (in), 10 E (in), 11 F (in), 12 G (in), 13 QH (out), 14 H (in), 15 SH/~{LD} (in), 16 VCC (power)

## SN74LV166ADGVR
designator U?
8-Bit Parallel-Load Shift Registers, DGV0016A, LARGE T&R; Generic Part Number: SN74LV166A; Manufacturer: Texas Instruments; PartNumber: SN74LV166ADGVR; Technology Family: LV-A; VCC(Min)(V): 2; VCC(Max)(V): 5.5; No. of Outputs: 1; Voltage(Nom)(V): 2.5, 3.3, 5; F @ Nom Voltage(Max)(Mhz): 70; ICC @ Nom Voltage(Max)(mA): 0.02; tpd @ Nom Voltage(Max)(ns): 26, 21.5, 13.5; Output Drive (IOL/IOH)(Max)(mA): 50/-50; Input Type: CMOS; 3-State Output: No; Rating: Catalog; DatasheetVersion: SCLS456C; PackageReference: DGV0016A; Output Type: CMOS; Operating Temperature Range(C): -40 to 85; Code_JEDEC: MO-194; ComponentLink1Description: Manufacturer URL; ComponentLink1URL: http://www.ti.com/; ComponentLink2Description: Datasheet; ComponentLink2URL: http://www.ti.com/lit/ds/symlink/sn74lv166a.pdf; ComponentLink3Description: Package Specification; ComponentLink3URL: http://www.ti.com/lit/ml/mpds006c/mpds006c.pdf
footprint DGV0016A_N (SOP, 16-Leads, Body 4.5x3.7mm, Pitch 0.4mm, IPC Medium Density)
footprint DGV0016A_M (SOP, 16-Leads, Body 4.5x3.7mm, Pitch 0.4mm, IPC Low Density)
footprint DGV0016A_L (SOP, 16-Leads, Body 4.5x3.7mm, Pitch 0.4mm, IPC High Density)
pins: 1 SER (in), 2 A (in), 3 B (in), 4 C (in), 5 D (in), 6 CLK INH (in), 7 CLK (in), 8 GND (power), 9 ~{CLR} (in), 10 E (in), 11 F (in), 12 G (in), 13 QH (out), 14 H (in), 15 SH/~{LD} (in), 16 VCC (power)

## SN74LV166ADR
designator U?
8-Bit Parallel-Load Shift Registers, D0016A, LARGE T&R; Generic Part Number: SN74LV166A; Manufacturer: Texas Instruments; PartNumber: SN74LV166ADR; Technology Family: LV-A; VCC(Min)(V): 2; VCC(Max)(V): 5.5; No. of Outputs: 1; Voltage(Nom)(V): 2.5, 3.3, 5; F @ Nom Voltage(Max)(Mhz): 70; ICC @ Nom Voltage(Max)(mA): 0.02; tpd @ Nom Voltage(Max)(ns): 26, 21.5, 13.5; Output Drive (IOL/IOH)(Max)(mA): 50/-50; Input Type: CMOS; 3-State Output: No; Rating: Catalog; DatasheetVersion: SCLS456C; PackageReference: D0016A; Output Type: CMOS; Operating Temperature Range(C): -40 to 85; Code_JEDEC: MS-012 variation AC; ComponentLink1Description: Manufacturer URL; ComponentLink1URL: http://www.ti.com/; ComponentLink2Description: Datasheet; ComponentLink2URL: http://www.ti.com/lit/ds/symlink/sn74lv166a.pdf; ComponentLink3Description: Package Specification; ComponentLink3URL: http://www.ti.com/lit/ml/mpds178g/mpds178g.pdf
footprint D0016A_N (SOIC, 16-Leads, Body 10x4mm, Pitch 1.27mm, IPC Medium Density)
footprint D0016A_M (SOIC, 16-Leads, Body 10x4mm, Pitch 1.27mm, IPC Low Density)
footprint D0016A_L (SOIC, 16-Leads, Body 10x4mm, Pitch 1.27mm, IPC High Density)
pins: 1 SER (in), 2 A (in), 3 B (in), 4 C (in), 5 D (in), 6 CLK INH (in), 7 CLK (in), 8 GND (power), 9 ~{CLR} (in), 10 E (in), 11 F (in), 12 G (in), 13 QH (out), 14 H (in), 15 SH/~{LD} (in), 16 VCC (power)

## SN74LV166ANSR
designator U?
8-Bit Parallel-Load Shift Registers, NS0016A, LARGE T&R; Generic Part Number: SN74LV166A; Manufacturer: Texas Instruments; PartNumber: SN74LV166ANSR; Technology Family: LV-A; VCC(Min)(V): 2; VCC(Max)(V): 5.5; No. of Outputs: 1; Voltage(Nom)(V): 2.5, 3.3, 5; F @ Nom Voltage(Max)(Mhz): 70; ICC @ Nom Voltage(Max)(mA): 0.02; tpd @ Nom Voltage(Max)(ns): 26, 21.5, 13.5; Output Drive (IOL/IOH)(Max)(mA): 50/-50; Input Type: CMOS; 3-State Output: No; Rating: Catalog; Bits: 8; DatasheetVersion: SCLS456C; PackageReference: NS0016A; Output Type: CMOS; Operating Temperature Range(C): -40 to 85; ComponentLink1Description: Manufacturer URL; ComponentLink1URL: http://www.ti.com/; ComponentLink2Description: Datasheet; ComponentLink2URL: http://www.ti.com/lit/ds/symlink/sn74lv166a.pdf; ComponentLink3Description: Package Specification; ComponentLink3URL: http://www.ti.com/lit/ml/msop002a/msop002a.pdf
footprint NS0016A_N (SOIC,16-Leads,Body 10.5x5.6mm,Pitch 1.27mm,IPC Medium Density)
footprint NS0016A_M (SOIC,16-Leads,Body 10.5x5.6mm,Pitch 1.27mm,IPC Low Density)
footprint NS0016A_L (SOIC,16-Leads,Body 10.5x5.6mm,Pitch 1.27mm,IPC High Density)
pins: 1 SER (in), 2 A (in), 3 B (in), 4 C (in), 5 D (in), 6 CLK INH (in), 7 CLK (in), 8 GND (power), 9 ~{CLR} (in), 10 E (in), 11 F (in), 12 G (in), 13 QH (out), 14 H (in), 15 SH/~{LD} (in), 16 VCC (power)

## SN74LV166APW
designator U?
8-Bit Parallel-Load Shift Registers, PW0016A, TUBE; Generic Part Number: SN74LV166A; Manufacturer: Texas Instruments; PartNumber: SN74LV166APW; Technology Family: LV-A; VCC(Min)(V): 2; VCC(Max)(V): 5.5; No. of Outputs: 1; Voltage(Nom)(V): 2.5, 3.3, 5; F @ Nom Voltage(Max)(Mhz): 70; ICC @ Nom Voltage(Max)(mA): 0.02; tpd @ Nom Voltage(Max)(ns): 26, 21.5, 13.5; Output Drive (IOL/IOH)(Max)(mA): 50/-50; Input Type: CMOS; 3-State Output: No; Rating: Catalog; Bits: 8; DatasheetVersion: SCLS456C; PackageReference: PW0016A; Output Type: CMOS; Operating Temperature Range(C): -40 to 85; Code_JEDEC: MO-153; ComponentLink1Description: Manufacturer URL; ComponentLink1URL: http://www.ti.com/; ComponentLink2Description: Datasheet; ComponentLink2URL: http://www.ti.com/lit/ds/symlink/sn74lv166a.pdf; ComponentLink3Description: Package Specification; ComponentLink3URL: http://www.ti.com/lit/ml/mpds361/mpds361.pdf
footprint PW0016A_N (SOP, 16-Leads, Body 5.1x4.5mm, Pitch 0.65mm, IPC Medium Density)
footprint PW0016A_M (SOP, 16-Leads, Body 5.1x4.5mm, Pitch 0.65mm, IPC Low Density)
footprint PW0016A_L (SOP, 16-Leads, Body 5.1x4.5mm, Pitch 0.65mm, IPC High Density)
pins: 1 SER (in), 2 A (in), 3 B (in), 4 C (in), 5 D (in), 6 CLK INH (in), 7 CLK (in), 8 GND (power), 9 ~{CLR} (in), 10 E (in), 11 F (in), 12 G (in), 13 QH (out), 14 H (in), 15 SH/~{LD} (in), 16 VCC (power)

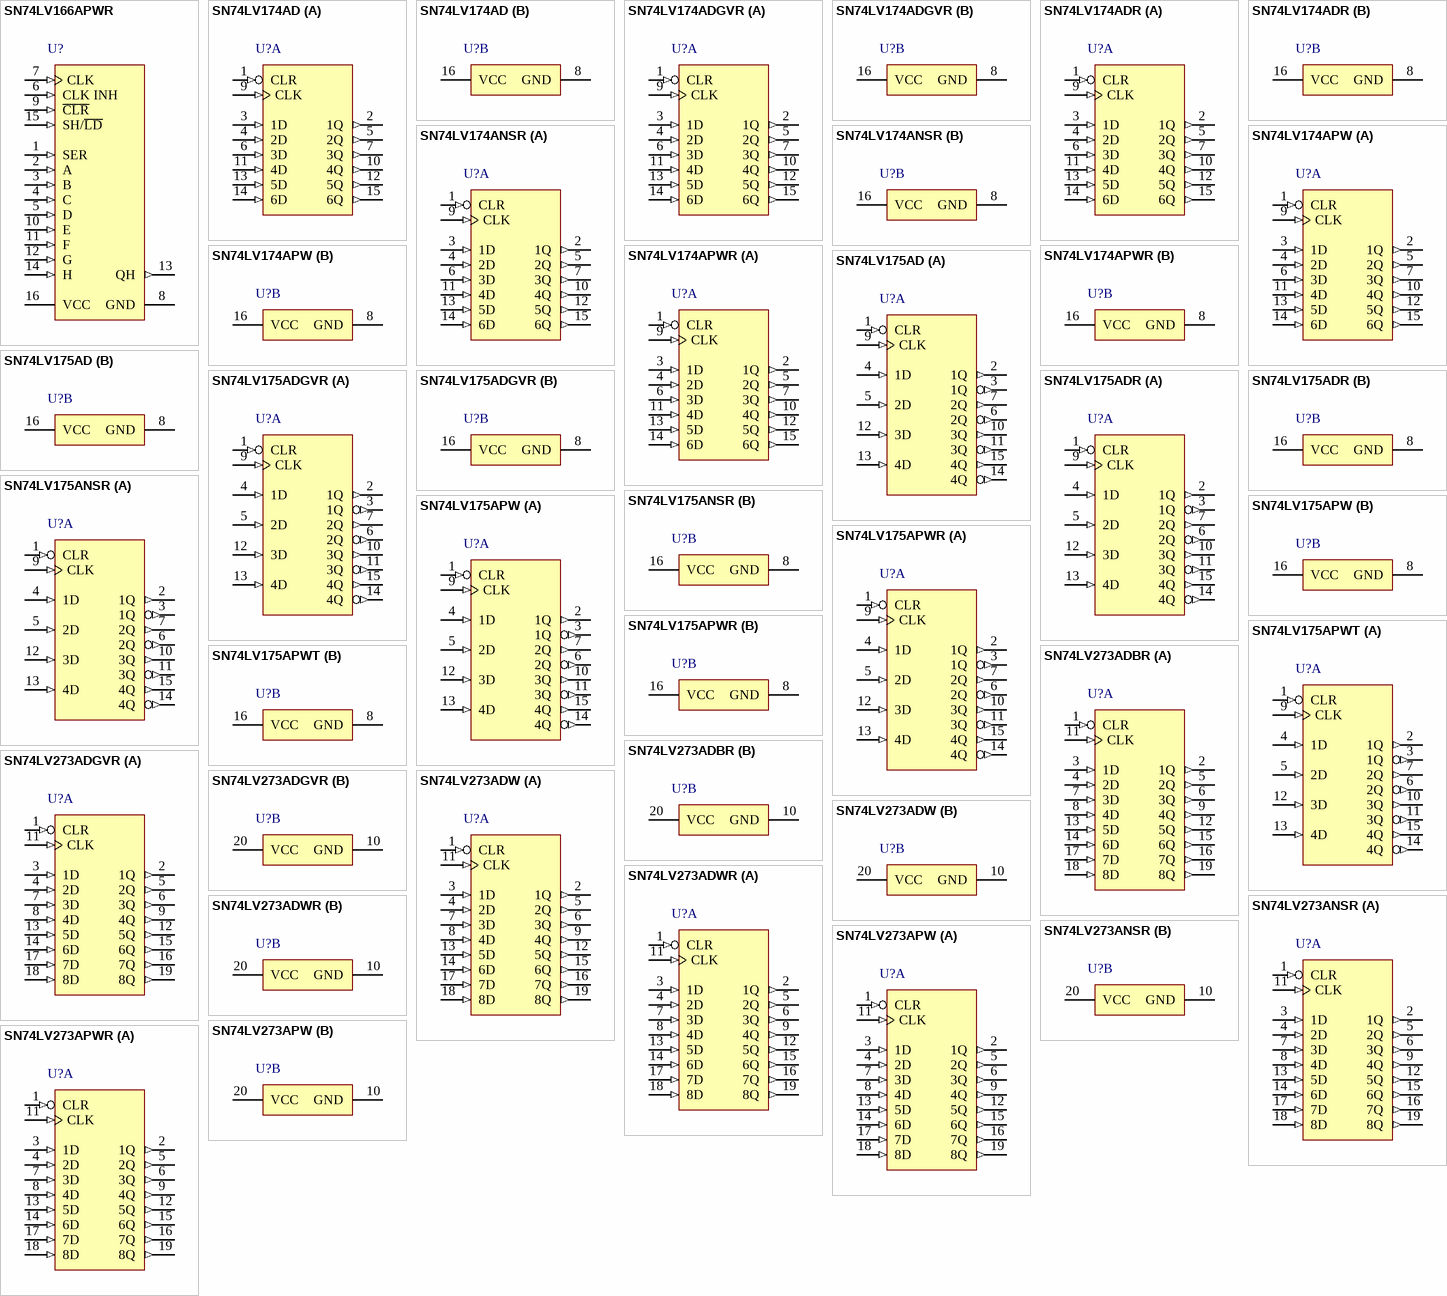
[diagram p99: symbols SN74LV166APWR to SN74LV273APWR]

## SN74LV166APWR
designator U?
8-Bit Parallel-Load Shift Registers, PW0016A, LARGE T&R; Generic Part Number: SN74LV166A; Manufacturer: Texas Instruments; PartNumber: SN74LV166APWR; Technology Family: LV-A; VCC(Min)(V): 2; VCC(Max)(V): 5.5; No. of Outputs: 1; Voltage(Nom)(V): 2.5, 3.3, 5; F @ Nom Voltage(Max)(Mhz): 70; ICC @ Nom Voltage(Max)(mA): 0.02; tpd @ Nom Voltage(Max)(ns): 26, 21.5, 13.5; Output Drive (IOL/IOH)(Max)(mA): 50/-50; Input Type: CMOS; 3-State Output: No; Rating: Catalog; Bits: 8; DatasheetVersion: SCLS456C; PackageReference: PW0016A; Output Type: CMOS; Operating Temperature Range(C): -40 to 85; Code_JEDEC: MO-153; ComponentLink1Description: Manufacturer URL; ComponentLink1URL: http://www.ti.com/; ComponentLink2Description: Datasheet; ComponentLink2URL: http://www.ti.com/lit/ds/symlink/sn74lv166a.pdf; ComponentLink3Description: Package Specification; ComponentLink3URL: http://www.ti.com/lit/ml/mpds361/mpds361.pdf
footprint PW0016A_N (SOP, 16-Leads, Body 5.1x4.5mm, Pitch 0.65mm, IPC Medium Density)
footprint PW0016A_M (SOP, 16-Leads, Body 5.1x4.5mm, Pitch 0.65mm, IPC Low Density)
footprint PW0016A_L (SOP, 16-Leads, Body 5.1x4.5mm, Pitch 0.65mm, IPC High Density)
pins: 1 SER (in), 2 A (in), 3 B (in), 4 C (in), 5 D (in), 6 CLK INH (in), 7 CLK (in), 8 GND (power), 9 ~{CLR} (in), 10 E (in), 11 F (in), 12 G (in), 13 QH (out), 14 H (in), 15 SH/~{LD} (in), 16 VCC (power)

## SN74LV174AD
designator U?
Hex D-Type Flip-Flops With Clear, D0016A, TUBE; Generic Part Number: SN74LV174A; Manufacturer: Texas Instruments; PartNumber: SN74LV174AD; VCC(Min)(V): 2; VCC(Max)(V): 5.5; Output Type: CMOS; ICC @ Nom Voltage(Max)(mA): 0.02; Bits(#): 6; F @ Nom Voltage(Max)(Mhz): 70; Rating: Catalog; Technology Family: LV-A; Voltage(Nom)(V): 2.5,3.3,5; Schmitt Trigger: No; Output Drive (IOL/IOH)(Max)(mA): 50/-50; Output Logic: Non-inverted; tpd @ Nom Voltage(Max)(ns): 19.5,13.5,9; DatasheetVersion: SCLS401G; PackageReference: D0016A; Supplier 1: Digi-Key; Supplier Part Number 1: 296-3791-5-ND; Supplier 2: Newark; Supplier Part Number 2: 76C4763; Supplier 3: Mouser; Supplier Part Number 3: 595-SN74LV174AD; Input Type: CMOS; Operating Temperature Range(C): -40 to 85; 3-State Output: No; Code_JEDEC: MS-012 variation AC; ComponentLink1Description: Manufacturer URL; ComponentLink1URL: http://www.ti.com/; ComponentLink2Description: Datasheet; ComponentLink2URL: http://www.ti.com/lit/ds/symlink/sn74lv174a.pdf; ComponentLink3Description: Package Specification; ComponentLink3URL: http://www.ti.com/lit/ml/mpds178g/mpds178g.pdf
footprint D0016A_N (SOIC, 16-Leads, Body 10x4mm, Pitch 1.27mm, IPC Medium Density)
footprint D0016A_M (SOIC, 16-Leads, Body 10x4mm, Pitch 1.27mm, IPC Low Density)
footprint D0016A_L (SOIC, 16-Leads, Body 10x4mm, Pitch 1.27mm, IPC High Density)
part A pins: 1 CLR (in), 2 1Q (out), 3 1D (in), 4 2D (in), 5 2Q (out), 6 3D (in), 7 3Q (out), 9 CLK (in), 10 4Q (out), 11 4D (in), 12 5Q (out), 13 5D (in), 14 6D (in), 15 6Q (out)
part B pins: 8 GND (power), 16 VCC (power)

## SN74LV174ADGVR
designator U?
Hex D-Type Flip-Flops With Clear, DGV0016A, LARGE T&R; Generic Part Number: SN74LV174A; Manufacturer: Texas Instruments; PartNumber: SN74LV174ADGVR; VCC(Min)(V): 2; VCC(Max)(V): 5.5; Output Type: CMOS; ICC @ Nom Voltage(Max)(mA): 0.02; Bits(#): 6; F @ Nom Voltage(Max)(Mhz): 70; Rating: Catalog; Technology Family: LV-A; Voltage(Nom)(V): 2.5,3.3,5; Schmitt Trigger: No; Output Drive (IOL/IOH)(Max)(mA): 50/-50; Output Logic: Non-inverted; tpd @ Nom Voltage(Max)(ns): 19.5,13.5,9; DatasheetVersion: SCLS401G; PackageReference: DGV0016A; Supplier 1: Digi-Key; Supplier Part Number 1: 296-23262-2-ND; Supplier 2: Digi-Key; Supplier Part Number 2: 296-23262-1-ND; Supplier 3: Digi-Key; Supplier Part Number 3: 296-23262-6-ND; Supplier 4: Mouser; Supplier Part Number 4: 595-SN74LV174ADGVR; Input Type: CMOS; Operating Temperature Range(C): -40 to 85; 3-State Output: No; Code_JEDEC: MO-194; ComponentLink1Description: Manufacturer URL; ComponentLink1URL: http://www.ti.com/; ComponentLink2Description: Datasheet; ComponentLink2URL: http://www.ti.com/lit/ds/symlink/sn74lv174a.pdf; ComponentLink3Description: Package Specification; ComponentLink3URL: http://www.ti.com/lit/ml/mpds006c/mpds006c.pdf
footprint DGV0016A_N (SOP, 16-Leads, Body 4.5x3.7mm, Pitch 0.4mm, IPC Medium Density)
footprint DGV0016A_M (SOP, 16-Leads, Body 4.5x3.7mm, Pitch 0.4mm, IPC Low Density)
footprint DGV0016A_L (SOP, 16-Leads, Body 4.5x3.7mm, Pitch 0.4mm, IPC High Density)
part A pins: 1 CLR (in), 2 1Q (out), 3 1D (in), 4 2D (in), 5 2Q (out), 6 3D (in), 7 3Q (out), 9 CLK (in), 10 4Q (out), 11 4D (in), 12 5Q (out), 13 5D (in), 14 6D (in), 15 6Q (out)
part B pins: 8 GND (power), 16 VCC (power)

## SN74LV174ADR
designator U?
Hex D-Type Flip-Flops With Clear, D0016A, LARGE T&R; Generic Part Number: SN74LV174A; Manufacturer: Texas Instruments; PartNumber: SN74LV174ADR; VCC(Min)(V): 2; VCC(Max)(V): 5.5; Output Type: CMOS; ICC @ Nom Voltage(Max)(mA): 0.02; Bits(#): 6; F @ Nom Voltage(Max)(Mhz): 70; Rating: Catalog; Technology Family: LV-A; Voltage(Nom)(V): 2.5,3.3,5; Schmitt Trigger: No; Output Drive (IOL/IOH)(Max)(mA): 50/-50; Output Logic: Non-inverted; tpd @ Nom Voltage(Max)(ns): 19.5,13.5,9; DatasheetVersion: SCLS401G; PackageReference: D0016A; Supplier 1: Digi-Key; Supplier Part Number 1: 296-14903-2-ND; Supplier 2: Digi-Key; Supplier Part Number 2: 296-14903-1-ND; Supplier 3: Digi-Key; Supplier Part Number 3: 296-14903-6-ND; Supplier 4: Newark; Supplier Part Number 4: 76C4766; Supplier 5: Mouser; Supplier Part Number 5: 595-SN74LV174ADR; Input Type: CMOS; Operating Temperature Range(C): -40 to 85; 3-State Output: No; Code_JEDEC: MS-012 variation AC; ComponentLink1Description: Manufacturer URL; ComponentLink1URL: http://www.ti.com/; ComponentLink2Description: Datasheet; ComponentLink2URL: http://www.ti.com/lit/ds/symlink/sn74lv174a.pdf; ComponentLink3Description: Package Specification; ComponentLink3URL: http://www.ti.com/lit/ml/mpds178g/mpds178g.pdf
footprint D0016A_N (SOIC, 16-Leads, Body 10x4mm, Pitch 1.27mm, IPC Medium Density)
footprint D0016A_M (SOIC, 16-Leads, Body 10x4mm, Pitch 1.27mm, IPC Low Density)
footprint D0016A_L (SOIC, 16-Leads, Body 10x4mm, Pitch 1.27mm, IPC High Density)
part A pins: 1 CLR (in), 2 1Q (out), 3 1D (in), 4 2D (in), 5 2Q (out), 6 3D (in), 7 3Q (out), 9 CLK (in), 10 4Q (out), 11 4D (in), 12 5Q (out), 13 5D (in), 14 6D (in), 15 6Q (out)
part B pins: 8 GND (power), 16 VCC (power)

## SN74LV174ANSR
designator U?
Hex D-Type Flip-Flops With Clear, NS0016A, LARGE T&R; Generic Part Number: SN74LV174A; Manufacturer: Texas Instruments; PartNumber: SN74LV174ANSR; VCC(Min)(V): 2; VCC(Max)(V): 5.5; Output Type: CMOS; ICC @ Nom Voltage(Max)(mA): 0.02; Bits(#): 6; F @ Nom Voltage(Max)(Mhz): 70; Rating: Catalog; Technology Family: LV-A; Voltage(Nom)(V): 2.5,3.3,5; Schmitt Trigger: No; Output Drive (IOL/IOH)(Max)(mA): 50/-50; Output Logic: Non-inverted; tpd @ Nom Voltage(Max)(ns): 19.5,13.5,9; DatasheetVersion: SCLS401G; PackageReference: NS0016A; Supplier 1: Digi-Key; Supplier Part Number 1: 296-37425-2-ND; Supplier 2: Digi-Key; Supplier Part Number 2: 296-37425-1-ND; Supplier 3: Digi-Key; Supplier Part Number 3: 296-37425-6-ND; Supplier 4: Mouser; Supplier Part Number 4: 595-SN74LV174ANSR; Input Type: CMOS; Operating Temperature Range(C): -40 to 85; 3-State Output: No; ComponentLink1Description: Manufacturer URL; ComponentLink1URL: http://www.ti.com/; ComponentLink2Description: Datasheet; ComponentLink2URL: http://www.ti.com/lit/ds/symlink/sn74lv174a.pdf; ComponentLink3Description: Package Specification; ComponentLink3URL: http://www.ti.com/lit/ml/msop002a/msop002a.pdf
footprint NS0016A_N (SOIC,16-Leads,Body 10.5x5.6mm,Pitch 1.27mm,IPC Medium Density)
footprint NS0016A_M (SOIC,16-Leads,Body 10.5x5.6mm,Pitch 1.27mm,IPC Low Density)
footprint NS0016A_L (SOIC,16-Leads,Body 10.5x5.6mm,Pitch 1.27mm,IPC High Density)
part A pins: 1 CLR (in), 2 1Q (out), 3 1D (in), 4 2D (in), 5 2Q (out), 6 3D (in), 7 3Q (out), 9 CLK (in), 10 4Q (out), 11 4D (in), 12 5Q (out), 13 5D (in), 14 6D (in), 15 6Q (out)
part B pins: 8 GND (power), 16 VCC (power)